# Altium integrated library CSD18502KCS.IntLib: 1 symbol
Pins are listed as number, name and electrical type; pins without a type are passive.

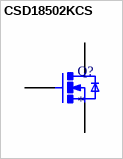
[diagram p0: symbol CSD18502KCS]

## CSD18502KCS
designator Q?
40V, N ch NexFET MOSFET, single TO-220, 2.9mOhm 3-TO-220 -55 to 175; MP: CSD18502KCS; MF: Texas Instruments; Purchase-URL: https://pricing.snapeda.com/search/part/CSD18502KCS/?ref=eda; Package: TO-220-3 Texas Instruments; Value: *; SnapEDA_Link: https://www.snapeda.com/parts/CSD18502KCS/Texas%20Instruments/view-part/277573/?ref=snap; Price: None; Availability: Good; Check_prices: https://www.snapeda.com/parts/CSD18502KCS/Texas%20Instruments/view-part/277573/?ref=eda
footprint TO254P1651X1067X470-3
pins: 1 GATE, 2 DRAIN, 3 SOURCE, 4 DRAIN, 4.1 DRAIN